# Altium schematic symbol library Component_0.SchLib: 2 symbols
Pins are listed as number, name and electrical type; pins without a type are passive.

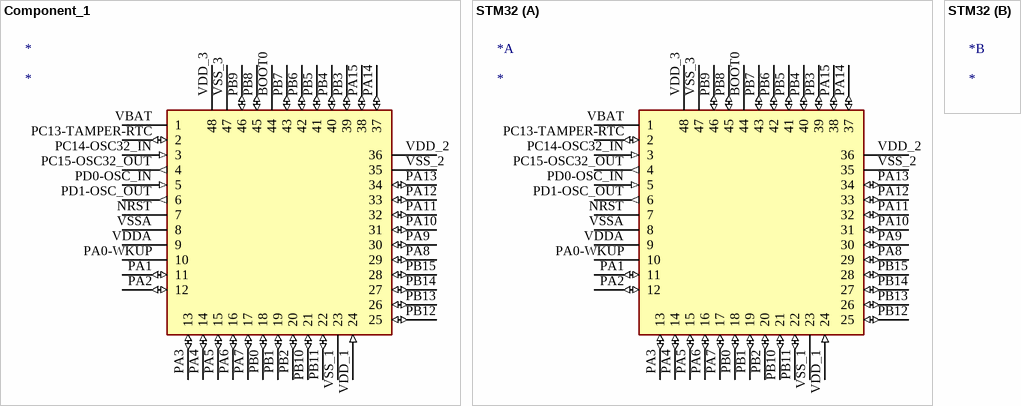
[diagram p0: symbols Component_1 to STM32]

## Component_1
designator *
pins: BOOT0 44 (power), NRST 7, PA0-WKUP 10, PA1 11 (io), PA2 12 (io), PA3 13 (io), PA4 14 (io), PA5 15 (io), PA6 16 (io), PA7 17 (io), PA8 29 (io), PA9 30 (io), PA10 31 (io), PA11 32 (io), PA12 33 (io), PA13 34 (io), PA14 37 (io), PA15 38 (io), PB0 18 (io), PB1 19 (io), PB2 20 (io), PB3 39 (io), PB4 40 (io), PB5 41 (io), PB6 42 (io), PB7 43 (io), PB8 45 (io), PB9 46 (io), PB10 21 (io), PB11 22 (io), PB12 25 (io), PB13 26 (io), PB14 27 (io), PB15 28 (io), PC13-TAMPER-RTC 2 (io), PC14-OSC32_IN 3 (in), PC15-OSC32_OUT 4 (out), PD0-OSC_IN 5 (in), PD1-OSC_OUT 6 (out), VBAT 1 (power), VDD_1 24 (in), VDD_2 36 (power), VDD_3 48 (power), VDDA 9 (power), VSS_1 23 (power), VSS_2 35 (power), VSS_3 47 (power), VSSA 8 (power)

## STM32
designator *
part A pins: BOOT0 44 (power), NRST 7, PA0-WKUP 10, PA1 11 (io), PA2 12 (io), PA3 13 (io), PA4 14 (io), PA5 15 (io), PA6 16 (io), PA7 17 (io), PA8 29 (io), PA9 30 (io), PA10 31 (io), PA11 32 (io), PA12 33 (io), PA13 34 (io), PA14 37 (io), PA15 38 (io), PB0 18 (io), PB1 19 (io), PB2 20 (io), PB3 39 (io), PB4 40 (io), PB5 41 (io), PB6 42 (io), PB7 43 (io), PB8 45 (io), PB9 46 (io), PB10 21 (io), PB11 22 (io), PB12 25 (io), PB13 26 (io), PB14 27 (io), PB15 28 (io), PC13-TAMPER-RTC 2 (io), PC14-OSC32_IN 3 (in), PC15-OSC32_OUT 4 (out), PD0-OSC_IN 5 (in), PD1-OSC_OUT 6 (out), VBAT 1 (power), VDD_1 24 (in), VDD_2 36 (power), VDD_3 48 (power), VDDA 9 (power), VSS_1 23 (power), VSS_2 35 (power), VSS_3 47 (power), VSSA 8 (power)